# EAGLE library part AL2-4EYR (library e-sps)
AL2 4EYR Relais-Ausgang MITSUBISHI Alpha_Installationsanweisung.pdf
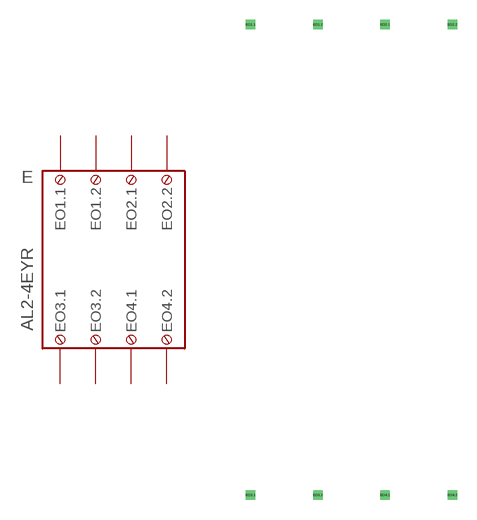
[diagram p20: symbol with the pads of AL2-4EYR; footprint AL2-4EYR]

Designator prefix E

## AL2-4EYR  [AL2-4EYR]
EO1.1  EO1.1  pas
EO1.2  EO1.2  pas
EO2.1  EO2.1  pas
EO2.2  EO2.2  pas
EO3.1  EO3.1  pas
EO3.2  EO3.2  pas
EO4.1  EO4.1  pas
EO4.2  EO4.2  pas

## Footprint AL2-4EYR (pad centres in mm)
AL2 4EYR
drill 0.2 pad 0.6 square: EO1.1 -7.62,17.78; EO1.2 -2.54,17.78; EO2.1 2.54,17.78; EO2.2 7.62,17.78; EO3.1 -7.62,-17.78; EO3.2 -2.54,-17.78; EO4.1 2.54,-17.78; EO4.2 7.62,-17.78